# EAGLE library part RTC58321 (library Custom)
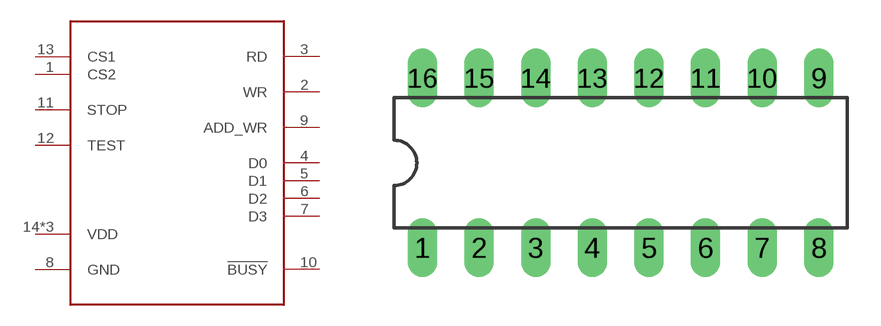
[diagram p48: symbol with the pads of DIL16; footprint DIL16]

Designator prefix -

## RTC58321  [DIL16]
1  CS2
2  WR  in
3  RD  in
4  D0
5  D1
6  D2
7  D3
8  GND  pwr
9  ADD_WR  in
10  !BUSY  out
11  STOP  in
12  TEST  pas
13  CS1  in
14  VDD  pwr
15  VDD  pwr
16  VDD  pwr

## Footprint DIL16 (pad centres in mm)
Dual In Line Package
drill 0.813 long: 1 -8.89,-3.81; 2 -6.35,-3.81; 3 -3.81,-3.81; 4 -1.27,-3.81; 5 1.27,-3.81; 6 3.81,-3.81; 7 6.35,-3.81; 8 8.89,-3.81; 9 8.89,3.81; 10 6.35,3.81; 11 3.81,3.81; 12 1.27,3.81; 13 -1.27,3.81; 14 -3.81,3.81; 15 -6.35,3.81; 16 -8.89,3.81